# Altium integrated library Altium_WE-XHMI (rev22e).IntLib: 45 symbols
Pins are listed as number, name and electrical type; pins without a type are passive.

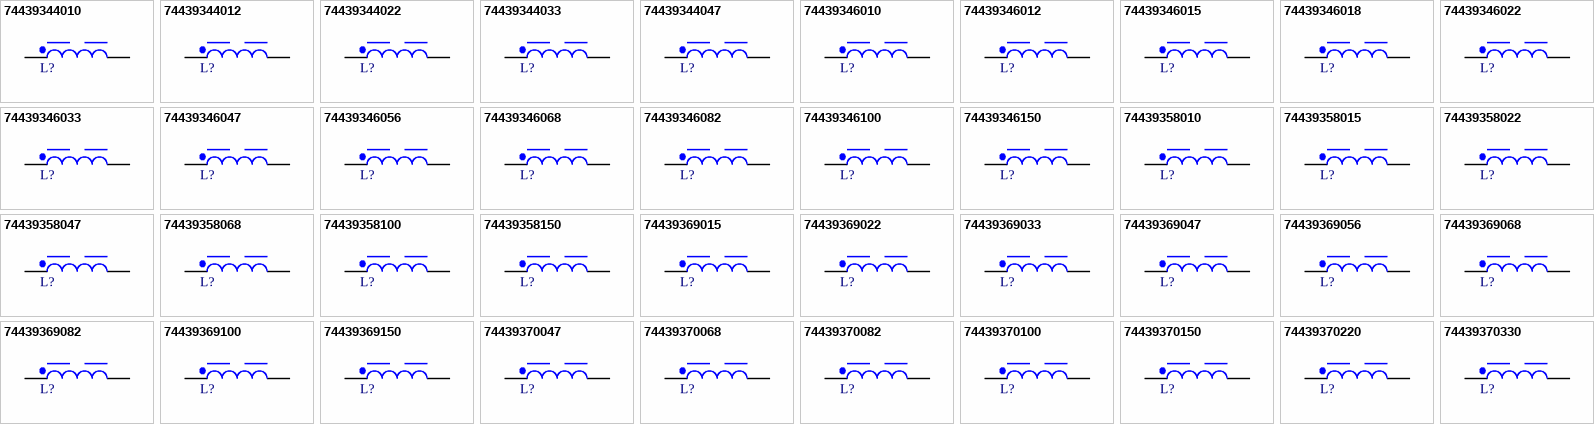
[diagram p0: symbols 74439344010 to 74439370330]

## 74439344010
designator L?, comment 1µH, 12A  (value not drawn)
WE-XHMI SMT Power Inductor, size 6030, 1µH, 12A, 5.5mΩ; Manufacturer Part Number: 74439344010; Manufacturer: Wurth Elektronik; Case/Size Code: 6030; Performance Rated Current: 15.75A; Saturation Current: 24.95A; Self Resonant Frequency: 59MHz; Category: Shielded Power Inductors; Match Code: WE-XHMI; ComponentLink1Description: Website Link; ComponentLink1URL: https://www.we-online.com/redexpert/article/74439344010?ad; ComponentLink2Description: Datasheet Link; ComponentLink2URL: https://www.we-online.com/redexpert/spec/74439344010?ad; Mount: Surface Mount; Operating Temperature Max: 125°C; Operating Temperature Min: -40°C; Packaging: Tape and Reel; Length: 6.65mm; Width: 6.45mm; Height: 3mm; DC Resistance: 5.5mΩ; Inductance: 1µH; Rated Current: 12A
footprint WE-XHMI_6030_L6.65W6.45H3
simulation model 6030_74439344010_1u
pins: 1, 2

## 74439344012
designator L?, comment 1.2µH, 10.3A  (value not drawn)
WE-XHMI SMT Power Inductor, size 6030, 1.2µH, 10.3A, 6.4mΩ; Manufacturer Part Number: 74439344012; Manufacturer: Wurth Elektronik; Case/Size Code: 6030; Performance Rated Current: 14.45A; Saturation Current: 21.6A; Self Resonant Frequency: 53MHz; Category: Shielded Power Inductors; Match Code: WE-XHMI; ComponentLink1Description: Website Link; ComponentLink1URL: https://www.we-online.com/redexpert/article/74439344012?ad; ComponentLink2Description: Datasheet Link; ComponentLink2URL: https://www.we-online.com/redexpert/spec/74439344012?ad; Mount: Surface Mount; Operating Temperature Max: 125°C; Operating Temperature Min: -40°C; Packaging: Tape and Reel; Length: 6.65mm; Width: 6.45mm; Height: 3mm; DC Resistance: 6.4mΩ; Inductance: 1.2µH; Rated Current: 10.3A
footprint WE-XHMI_6030_L6.65W6.45H3
simulation model 6030_74439344012_1.2u
pins: 1, 2

## 74439344022
designator L?, comment 2.2µH, 8A  (value not drawn)
WE-XHMI SMT Power Inductor, size 6030, 2.2µH, 8A, 10.5mΩ; Manufacturer Part Number: 74439344022; Manufacturer: Wurth Elektronik; Case/Size Code: 6030; Performance Rated Current: 10.85A; Saturation Current: 16.25A; Self Resonant Frequency: 37MHz; Category: Shielded Power Inductors; Match Code: WE-XHMI; ComponentLink1Description: Website Link; ComponentLink1URL: https://www.we-online.com/redexpert/article/74439344022?ad; ComponentLink2Description: Datasheet Link; ComponentLink2URL: https://www.we-online.com/redexpert/spec/74439344022?ad; Mount: Surface Mount; Operating Temperature Max: 125°C; Operating Temperature Min: -40°C; Packaging: Tape and Reel; Length: 6.65mm; Width: 6.45mm; Height: 3mm; DC Resistance: 10.5mΩ; Inductance: 2.2µH; Rated Current: 8A
footprint WE-XHMI_6030_L6.65W6.45H3
simulation model 6030_74439344022_2.2u
pins: 1, 2

## 74439344033
designator L?, comment 3.3µH, 6A  (value not drawn)
WE-XHMI SMT Power Inductor, size 6030, 3.3µH, 6A, 19.2mΩ; Manufacturer Part Number: 74439344033; Manufacturer: Wurth Elektronik; Case/Size Code: 6030; Performance Rated Current: 7.65A; Saturation Current: 14.5A; Self Resonant Frequency: 31MHz; Category: Shielded Power Inductors; Match Code: WE-XHMI; ComponentLink1Description: Website Link; ComponentLink1URL: https://www.we-online.com/redexpert/article/74439344033?ad; ComponentLink2Description: Datasheet Link; ComponentLink2URL: https://www.we-online.com/redexpert/spec/74439344033?ad; Mount: Surface Mount; Operating Temperature Max: 125°C; Operating Temperature Min: -40°C; Packaging: Tape and Reel; Length: 6.65mm; Width: 6.45mm; Height: 3mm; DC Resistance: 19.2mΩ; Inductance: 3.3µH; Rated Current: 6A
footprint WE-XHMI_6030_L6.65W6.45H3
simulation model 6030_74439344033_3.3u
pins: 1, 2

## 74439344047
designator L?, comment 4.7µH, 4.7A  (value not drawn)
WE-XHMI SMT Power Inductor, size 6030, 4.7µH, 4.7A, 31mΩ; Manufacturer Part Number: 74439344047; Manufacturer: Wurth Elektronik; Case/Size Code: 6030; Performance Rated Current: 5.8A; Saturation Current: 10.5A; Self Resonant Frequency: 28MHz; Category: Shielded Power Inductors; Match Code: WE-XHMI; ComponentLink1Description: Website Link; ComponentLink1URL: https://www.we-online.com/redexpert/article/74439344047?ad; ComponentLink2Description: Datasheet Link; ComponentLink2URL: https://www.we-online.com/redexpert/spec/74439344047?ad; Mount: Surface Mount; Operating Temperature Max: 125°C; Operating Temperature Min: -40°C; Packaging: Tape and Reel; Length: 6.65mm; Width: 6.45mm; Height: 3mm; DC Resistance: 31mΩ; Inductance: 4.7µH; Rated Current: 4.7A
footprint WE-XHMI_6030_L6.65W6.45H3
simulation model 6030_74439344047_4.7u
pins: 1, 2

## 74439346010
designator L?, comment 1µH, 13.1A  (value not drawn)
WE-XHMI SMT Power Inductor, size 6060, 1µH, 13.1A, 3.39mΩ; Manufacturer Part Number: 74439346010; Manufacturer: Wurth Elektronik; Case/Size Code: 6060; Performance Rated Current: 20.95A; Saturation Current: 24A; Self Resonant Frequency: 60MHz; Category: Shielded Power Inductors; Match Code: WE-XHMI; ComponentLink1Description: Website Link; ComponentLink1URL: https://www.we-online.com/redexpert/article/74439346010?ad; ComponentLink2Description: Datasheet Link; ComponentLink2URL: https://www.we-online.com/redexpert/spec/74439346010?ad; Mount: Surface Mount; Operating Temperature Max: 125°C; Operating Temperature Min: -40°C; Packaging: Tape and Reel; Length: 6.65mm; Width: 6.45mm; Height: 5.8mm; DC Resistance: 3.39mΩ; Inductance: 1µH; Rated Current: 13.1A
footprint WE-XHMI_6060_L6.65W6.45H5.8
simulation model 6060_74439346010_1u
pins: 1, 2

## 74439346012
designator L?, comment 1.2µH, 14.2A  (value not drawn)
WE-XHMI SMT Power Inductor, size 6060, 1.2µH, 14.2A, 3.65mΩ; Manufacturer Part Number: 74439346012; Manufacturer: Wurth Elektronik; Case/Size Code: 6060; Performance Rated Current: 20.5A; Saturation Current: 20A; Self Resonant Frequency: 50MHz; Category: Shielded Power Inductors; Match Code: WE-XHMI; ComponentLink1Description: Website Link; ComponentLink1URL: https://www.we-online.com/redexpert/article/74439346012?ad; ComponentLink2Description: Datasheet Link; ComponentLink2URL: https://www.we-online.com/redexpert/spec/74439346012?ad; Mount: Surface Mount; Operating Temperature Max: 125°C; Operating Temperature Min: -40°C; Packaging: Tape and Reel; Length: 6.65mm; Width: 6.45mm; Height: 5.8mm; DC Resistance: 3.65mΩ; Inductance: 1.2µH; Rated Current: 14.2A
footprint WE-XHMI_6060_L6.65W6.45H5.8
simulation model 6060_74439346012_1.2u
pins: 1, 2

## 74439346015
designator L?, comment 1.5µH, 13.2A  (value not drawn)
WE-XHMI SMT Power Inductor, size 6060, 1.5µH, 13.2A, 3.9mΩ; Manufacturer Part Number: 74439346015; Manufacturer: Wurth Elektronik; Case/Size Code: 6060; Performance Rated Current: 19.35A; Saturation Current: 20.5A; Self Resonant Frequency: 44MHz; Category: Shielded Power Inductors; Match Code: WE-XHMI; ComponentLink1Description: Website Link; ComponentLink1URL: https://www.we-online.com/redexpert/article/74439346015?ad; ComponentLink2Description: Datasheet Link; ComponentLink2URL: https://www.we-online.com/redexpert/spec/74439346015?ad; Mount: Surface Mount; Operating Temperature Max: 125°C; Operating Temperature Min: -40°C; Packaging: Tape and Reel; Length: 6.65mm; Width: 6.45mm; Height: 5.8mm; DC Resistance: 3.9mΩ; Inductance: 1.5µH; Rated Current: 13.2A
footprint WE-XHMI_6060_L6.65W6.45H5.8
simulation model 6060_74439346015_1.5u
pins: 1, 2

## 74439346018
designator L?, comment 1.8µH, 11.5A  (value not drawn)
WE-XHMI SMT Power Inductor, size 6060, 1.8µH, 11.5A, 4.7mΩ; Manufacturer Part Number: 74439346018; Manufacturer: Wurth Elektronik; Case/Size Code: 6060; Performance Rated Current: 17.35A; Saturation Current: 18.3A; Self Resonant Frequency: 42MHz; Category: Shielded Power Inductors; Match Code: WE-XHMI; ComponentLink1Description: Website Link; ComponentLink1URL: https://www.we-online.com/redexpert/article/74439346018?ad; ComponentLink2Description: Datasheet Link; ComponentLink2URL: https://www.we-online.com/redexpert/spec/74439346018?ad; Mount: Surface Mount; Operating Temperature Max: 125°C; Operating Temperature Min: -40°C; Packaging: Tape and Reel; Length: 6.65mm; Width: 6.45mm; Height: 5.8mm; DC Resistance: 4.7mΩ; Inductance: 1.8µH; Rated Current: 11.5A
footprint WE-XHMI_6060_L6.65W6.45H5.8
simulation model 6060_74439346018_1.8u
pins: 1, 2

## 74439346022
designator L?, comment 2.2µH, 10.6A  (value not drawn)
WE-XHMI SMT Power Inductor, size 6060, 2.2µH, 10.6A, 5.58mΩ; Manufacturer Part Number: 74439346022; Manufacturer: Wurth Elektronik; Case/Size Code: 6060; Performance Rated Current: 15.75A; Saturation Current: 19.5A; Self Resonant Frequency: 37MHz; Category: Shielded Power Inductors; Match Code: WE-XHMI; ComponentLink1Description: Website Link; ComponentLink1URL: https://www.we-online.com/redexpert/article/74439346022?ad; ComponentLink2Description: Datasheet Link; ComponentLink2URL: https://www.we-online.com/redexpert/spec/74439346022?ad; Mount: Surface Mount; Operating Temperature Max: 125°C; Operating Temperature Min: -40°C; Packaging: Tape and Reel; Length: 6.65mm; Width: 6.45mm; Height: 5.8mm; DC Resistance: 5.58mΩ; Inductance: 2.2µH; Rated Current: 10.6A
footprint WE-XHMI_6060_L6.65W6.45H5.8
simulation model 6060_74439346022_2.2u
pins: 1, 2

## 74439346033
designator L?, comment 3.3µH, 8A  (value not drawn)
WE-XHMI SMT Power Inductor, size 6060, 3.3µH, 8A, 10.83mΩ; Manufacturer Part Number: 74439346033; Manufacturer: Wurth Elektronik; Case/Size Code: 6060; Performance Rated Current: 10.7A; Saturation Current: 15A; Self Resonant Frequency: 31MHz; Category: Shielded Power Inductors; Match Code: WE-XHMI; ComponentLink1Description: Website Link; ComponentLink1URL: https://www.we-online.com/redexpert/article/74439346033?ad; ComponentLink2Description: Datasheet Link; ComponentLink2URL: https://www.we-online.com/redexpert/spec/74439346033?ad; Mount: Surface Mount; Operating Temperature Max: 125°C; Operating Temperature Min: -40°C; Packaging: Tape and Reel; Length: 6.65mm; Width: 6.45mm; Height: 5.8mm; DC Resistance: 10.83mΩ; Inductance: 3.3µH; Rated Current: 8A
footprint WE-XHMI_6060_L6.65W6.45H5.8
simulation model 6060_74439346033_3.3u
pins: 1, 2

## 74439346047
designator L?, comment 4.7µH, 7.4A  (value not drawn)
WE-XHMI SMT Power Inductor, size 6060, 4.7µH, 7.4A, 13mΩ; Manufacturer Part Number: 74439346047; Manufacturer: Wurth Elektronik; Case/Size Code: 6060; Performance Rated Current: 9.6A; Saturation Current: 13A; Self Resonant Frequency: 28MHz; Category: Shielded Power Inductors; Match Code: WE-XHMI; ComponentLink1Description: Website Link; ComponentLink1URL: https://www.we-online.com/redexpert/article/74439346047?ad; ComponentLink2Description: Datasheet Link; ComponentLink2URL: https://www.we-online.com/redexpert/spec/74439346047?ad; Mount: Surface Mount; Operating Temperature Max: 125°C; Operating Temperature Min: -40°C; Packaging: Tape and Reel; Length: 6.65mm; Width: 6.45mm; Height: 5.8mm; DC Resistance: 13mΩ; Inductance: 4.7µH; Rated Current: 7.4A
footprint WE-XHMI_6060_L6.65W6.45H5.8
simulation model 6060_74439346047_4.7u
pins: 1, 2

## 74439346056
designator L?, comment 5.6µH, 6.9A  (value not drawn)
WE-XHMI SMT Power Inductor, size 6060, 5.6µH, 6.9A, 15mΩ; Manufacturer Part Number: 74439346056; Manufacturer: Wurth Elektronik; Case/Size Code: 6060; Performance Rated Current: 8.9A; Saturation Current: 12.1A; Self Resonant Frequency: 25MHz; Category: Shielded Power Inductors; Match Code: WE-XHMI; ComponentLink1Description: Website Link; ComponentLink1URL: https://www.we-online.com/redexpert/article/74439346056?ad; ComponentLink2Description: Datasheet Link; ComponentLink2URL: https://www.we-online.com/redexpert/spec/74439346056?ad; Mount: Surface Mount; Operating Temperature Max: 125°C; Operating Temperature Min: -40°C; Packaging: Tape and Reel; Length: 6.65mm; Width: 6.45mm; Height: 5.8mm; DC Resistance: 15mΩ; Inductance: 5.6µH; Rated Current: 6.9A
footprint WE-XHMI_6060_L6.65W6.45H5.8
simulation model 6060_74439346056_5.6u
pins: 1, 2

## 74439346068
designator L?, comment 6.8µH, 6.5A  (value not drawn)
WE-XHMI SMT Power Inductor, size 6060, 6.8µH, 6.5A, 17.6mΩ; Manufacturer Part Number: 74439346068; Manufacturer: Wurth Elektronik; Case/Size Code: 6060; Performance Rated Current: 8.1A; Saturation Current: 11.3A; Self Resonant Frequency: 22MHz; Category: Shielded Power Inductors; Match Code: WE-XHMI; ComponentLink1Description: Website Link; ComponentLink1URL: https://www.we-online.com/redexpert/article/74439346068?ad; ComponentLink2Description: Datasheet Link; ComponentLink2URL: https://www.we-online.com/redexpert/spec/74439346068?ad; Mount: Surface Mount; Operating Temperature Max: 125°C; Operating Temperature Min: -40°C; Packaging: Tape and Reel; Length: 6.65mm; Width: 6.45mm; Height: 5.8mm; DC Resistance: 17.6mΩ; Inductance: 6.8µH; Rated Current: 6.5A
footprint WE-XHMI_6060_L6.65W6.45H5.8
simulation model 6060_74439346068_6.8u
pins: 1, 2

## 74439346082
designator L?, comment 8.2µH, 5.3A  (value not drawn)
WE-XHMI SMT Power Inductor, size 6060, 8.2µH, 5.3A, 23mΩ; Manufacturer Part Number: 74439346082; Manufacturer: Wurth Elektronik; Case/Size Code: 6060; Performance Rated Current: 6.95A; Saturation Current: 9.3A; Self Resonant Frequency: 19MHz; Category: Shielded Power Inductors; Match Code: WE-XHMI; ComponentLink1Description: Website Link; ComponentLink1URL: https://www.we-online.com/redexpert/article/74439346082?ad; ComponentLink2Description: Datasheet Link; ComponentLink2URL: https://www.we-online.com/redexpert/spec/74439346082?ad; Mount: Surface Mount; Operating Temperature Max: 125°C; Operating Temperature Min: -40°C; Packaging: Tape and Reel; Length: 6.65mm; Width: 6.45mm; Height: 5.8mm; DC Resistance: 23mΩ; Inductance: 8.2µH; Rated Current: 5.3A
footprint WE-XHMI_6060_L6.65W6.45H5.8
simulation model 6060_74439346082_8.2u
pins: 1, 2

## 74439346100
designator L?, comment 10µH, 5A  (value not drawn)
WE-XHMI SMT Power Inductor, size 6060, 10µH, 5A, 26.5mΩ; Manufacturer Part Number: 74439346100; Manufacturer: Wurth Elektronik; Case/Size Code: 6060; Performance Rated Current: 6.4A; Saturation Current: 9.7A; Self Resonant Frequency: 18MHz; Category: Shielded Power Inductors; Match Code: WE-XHMI; ComponentLink1Description: Website Link; ComponentLink1URL: https://www.we-online.com/redexpert/article/74439346100?ad; ComponentLink2Description: Datasheet Link; ComponentLink2URL: https://www.we-online.com/redexpert/spec/74439346100?ad; Mount: Surface Mount; Operating Temperature Max: 125°C; Operating Temperature Min: -40°C; Packaging: Tape and Reel; Length: 6.65mm; Width: 6.45mm; Height: 5.8mm; DC Resistance: 26.5mΩ; Inductance: 10µH; Rated Current: 5A
footprint WE-XHMI_6060_L6.65W6.45H5.8
simulation model 6060_74439346100_10u
pins: 1, 2

## 74439346150
designator L?, comment 15µH, 4.2A  (value not drawn)
WE-XHMI SMT Power Inductor, size 6060, 15µH, 4.2A, 42mΩ; Manufacturer Part Number: 74439346150; Manufacturer: Wurth Elektronik; Case/Size Code: 6060; Performance Rated Current: 4.9A; Saturation Current: 7.4A; Self Resonant Frequency: 14MHz; Category: Shielded Power Inductors; Match Code: WE-XHMI; ComponentLink1Description: Website Link; ComponentLink1URL: https://www.we-online.com/redexpert/article/74439346150?ad; ComponentLink2Description: Datasheet Link; ComponentLink2URL: https://www.we-online.com/redexpert/spec/74439346150?ad; Mount: Surface Mount; Operating Temperature Max: 125°C; Operating Temperature Min: -40°C; Packaging: Tape and Reel; Length: 6.65mm; Width: 6.45mm; Height: 5.8mm; DC Resistance: 42mΩ; Inductance: 15µH; Rated Current: 4.2A
footprint WE-XHMI_6060_L6.65W6.45H5.8
simulation model 6060_74439346150_15u
pins: 1, 2

## 74439358010
designator L?, comment 1µH, 17A  (value not drawn)
WE-XHMI SMT Power Inductor, size 8080, 1µH, 17A, 2.1mΩ; Manufacturer Part Number: 74439358010; Manufacturer: Wurth Elektronik; Case/Size Code: 8080; Performance Rated Current: 30.25A; Saturation Current: 38.15A; Self Resonant Frequency: 53MHz; Category: Shielded Power Inductors; Match Code: WE-XHMI; ComponentLink1Description: Website Link; ComponentLink1URL: https://www.we-online.com/redexpert/article/74439358010?ad; ComponentLink2Description: Datasheet Link; ComponentLink2URL: https://www.we-online.com/redexpert/spec/74439358010?ad; Mount: Surface Mount; Operating Temperature Max: 125°C; Operating Temperature Min: -40°C; Packaging: Tape and Reel; Length: 8.8mm; Width: 8.3mm; Height: 7.8mm; DC Resistance: 2.1mΩ; Inductance: 1µH; Rated Current: 17A
footprint WE-XHMI_8080_L8.8W8.3H7.8
simulation model 8080_74439358010_1u
pins: 1, 2

## 74439358015
designator L?, comment 1.5µH, 16A  (value not drawn)
WE-XHMI SMT Power Inductor, size 8080, 1.5µH, 16A, 2.91mΩ; Manufacturer Part Number: 74439358015; Manufacturer: Wurth Elektronik; Case/Size Code: 8080; Performance Rated Current: 25.1A; Saturation Current: 32A; Self Resonant Frequency: 37MHz; Category: Shielded Power Inductors; Match Code: WE-XHMI; ComponentLink1Description: Website Link; ComponentLink1URL: https://www.we-online.com/redexpert/article/74439358015?ad; ComponentLink2Description: Datasheet Link; ComponentLink2URL: https://www.we-online.com/redexpert/spec/74439358015?ad; Mount: Surface Mount; Operating Temperature Max: 125°C; Operating Temperature Min: -40°C; Packaging: Tape and Reel; Length: 8.8mm; Width: 8.3mm; Height: 7.8mm; DC Resistance: 2.91mΩ; Inductance: 1.5µH; Rated Current: 16A
footprint WE-XHMI_8080_L8.8W8.3H7.8
simulation model 8080_74439358015_1.5u
pins: 1, 2

## 74439358022
designator L?, comment 2.2µH, 13A  (value not drawn)
WE-XHMI SMT Power Inductor, size 8080, 2.2µH, 13A, 3.7mΩ; Manufacturer Part Number: 74439358022; Manufacturer: Wurth Elektronik; Case/Size Code: 8080; Performance Rated Current: 21.85A; Saturation Current: 26.45A; Self Resonant Frequency: 33MHz; Category: Shielded Power Inductors; Match Code: WE-XHMI; ComponentLink1Description: Website Link; ComponentLink1URL: https://www.we-online.com/redexpert/article/74439358022?ad; ComponentLink2Description: Datasheet Link; ComponentLink2URL: https://www.we-online.com/redexpert/spec/74439358022?ad; Mount: Surface Mount; Operating Temperature Max: 125°C; Operating Temperature Min: -40°C; Packaging: Tape and Reel; Length: 8.8mm; Width: 8.3mm; Height: 7.8mm; DC Resistance: 3.7mΩ; Inductance: 2.2µH; Rated Current: 13A
footprint WE-XHMI_8080_L8.8W8.3H7.8
simulation model 8080_74439358022_2.2u
pins: 1, 2

## 74439358047
designator L?, comment 4.7µH, 9.5A  (value not drawn)
WE-XHMI SMT Power Inductor, size 8080, 4.7µH, 9.5A, 8.65mΩ; Manufacturer Part Number: 74439358047; Manufacturer: Wurth Elektronik; Case/Size Code: 8080; Performance Rated Current: 13.35A; Saturation Current: 16.65A; Self Resonant Frequency: 22MHz; Category: Shielded Power Inductors; Match Code: WE-XHMI; ComponentLink1Description: Website Link; ComponentLink1URL: https://www.we-online.com/redexpert/article/74439358047?ad; ComponentLink2Description: Datasheet Link; ComponentLink2URL: https://www.we-online.com/redexpert/spec/74439358047?ad; Mount: Surface Mount; Operating Temperature Max: 125°C; Operating Temperature Min: -40°C; Packaging: Tape and Reel; Length: 8.8mm; Width: 8.3mm; Height: 7.8mm; DC Resistance: 8.65mΩ; Inductance: 4.7µH; Rated Current: 9.5A
footprint WE-XHMI_8080_L8.8W8.3H7.8
simulation model 8080_74439358047_4.7u
pins: 1, 2

## 74439358068
designator L?, comment 6.8µH, 7.2A  (value not drawn)
WE-XHMI SMT Power Inductor, size 8080, 6.8µH, 7.2A, 13mΩ; Manufacturer Part Number: 74439358068; Manufacturer: Wurth Elektronik; Case/Size Code: 8080; Performance Rated Current: 10.55A; Saturation Current: 17.6A; Self Resonant Frequency: 22MHz; Category: Shielded Power Inductors; Match Code: WE-XHMI; ComponentLink1Description: Website Link; ComponentLink1URL: https://www.we-online.com/redexpert/article/74439358068?ad; ComponentLink2Description: Datasheet Link; ComponentLink2URL: https://www.we-online.com/redexpert/spec/74439358068?ad; Mount: Surface Mount; Operating Temperature Max: 125°C; Operating Temperature Min: -40°C; Packaging: Tape and Reel; Length: 8.8mm; Width: 8.3mm; Height: 7.8mm; DC Resistance: 13mΩ; Inductance: 6.8µH; Rated Current: 7.2A
footprint WE-XHMI_8080_L8.8W8.3H7.8
simulation model 8080_74439358068_6.8u
pins: 1, 2

## 74439358100
designator L?, comment 10µH, 5.8A  (value not drawn)
WE-XHMI SMT Power Inductor, size 8080, 10µH, 5.8A, 19mΩ; Manufacturer Part Number: 74439358100; Manufacturer: Wurth Elektronik; Case/Size Code: 8080; Performance Rated Current: 8.5A; Saturation Current: 13.5A; Self Resonant Frequency: 17MHz; Category: Shielded Power Inductors; Match Code: WE-XHMI; ComponentLink1Description: Website Link; ComponentLink1URL: https://www.we-online.com/redexpert/article/74439358100?ad; ComponentLink2Description: Datasheet Link; ComponentLink2URL: https://www.we-online.com/redexpert/spec/74439358100?ad; Mount: Surface Mount; Operating Temperature Max: 125°C; Operating Temperature Min: -40°C; Packaging: Tape and Reel; Length: 8.8mm; Width: 8.3mm; Height: 7.8mm; DC Resistance: 19mΩ; Inductance: 10µH; Rated Current: 5.8A
footprint WE-XHMI_8080_L8.8W8.3H7.8
simulation model 8080_74439358100_10u
pins: 1, 2

## 74439358150
designator L?, comment 15µH, 5.6A  (value not drawn)
WE-XHMI SMT Power Inductor, size 8080, 15µH, 5.6A, 25mΩ; Manufacturer Part Number: 74439358150; Manufacturer: Wurth Elektronik; Case/Size Code: 8080; Performance Rated Current: 7.25A; Saturation Current: 10.7A; Self Resonant Frequency: 12MHz; Category: Shielded Power Inductors; Match Code: WE-XHMI; ComponentLink1Description: Website Link; ComponentLink1URL: https://www.we-online.com/redexpert/article/74439358150?ad; ComponentLink2Description: Datasheet Link; ComponentLink2URL: https://www.we-online.com/redexpert/spec/74439358150?ad; Mount: Surface Mount; Operating Temperature Max: 125°C; Operating Temperature Min: -40°C; Packaging: Tape and Reel; Length: 8.8mm; Width: 8.3mm; Height: 7.8mm; DC Resistance: 25mΩ; Inductance: 15µH; Rated Current: 5.6A
footprint WE-XHMI_8080_L8.8W8.3H7.8
simulation model 8080_74439358150_15u
pins: 1, 2

## 74439369015
designator L?, comment 1.5µH, 23.2A  (value not drawn)
WE-XHMI SMT Power Inductor, size 1090, 1.5µH, 23.2A, 1.46mΩ; Manufacturer Part Number: 74439369015; Manufacturer: Wurth Elektronik; Case/Size Code: 1090; Performance Rated Current: 40.6A; Saturation Current: 38.55A; Self Resonant Frequency: 31MHz; Category: Shielded Power Inductors; Match Code: WE-XHMI; ComponentLink1Description: Website Link; ComponentLink1URL: https://www.we-online.com/redexpert/article/74439369015?ad; ComponentLink2Description: Datasheet Link; ComponentLink2URL: https://www.we-online.com/redexpert/spec/74439369015?ad; Mount: Surface Mount; Operating Temperature Max: 125°C; Operating Temperature Min: -40°C; Packaging: Tape and Reel; Length: 11.6mm; Width: 10.5mm; Height: 8.8mm; DC Resistance: 1.46mΩ; Inductance: 1.5µH; Rated Current: 23.2A
footprint WE-XHMI_1090_L11.6W10.5H8.8
simulation model 1090_74439369015_1.5u
pins: 1, 2

## 74439369022
designator L?, comment 2.2µH, 16A  (value not drawn)
WE-XHMI SMT Power Inductor, size 1090, 2.2µH, 16A, 2.2mΩ; Manufacturer Part Number: 74439369022; Manufacturer: Wurth Elektronik; Case/Size Code: 1090; Performance Rated Current: 32.05A; Saturation Current: 32.1A; Self Resonant Frequency: 28MHz; Category: Shielded Power Inductors; Match Code: WE-XHMI; ComponentLink1Description: Website Link; ComponentLink1URL: https://www.we-online.com/redexpert/article/74439369022?ad; ComponentLink2Description: Datasheet Link; ComponentLink2URL: https://www.we-online.com/redexpert/spec/74439369022?ad; Mount: Surface Mount; Operating Temperature Max: 125°C; Operating Temperature Min: -40°C; Packaging: Tape and Reel; Length: 11.6mm; Width: 10.5mm; Height: 8.8mm; DC Resistance: 2.2mΩ; Inductance: 2.2µH; Rated Current: 16A
footprint WE-XHMI_1090_L11.6W10.5H8.8
simulation model 1090_74439369022_2.2u
pins: 1, 2

## 74439369033
designator L?, comment 3.3µH, 15A  (value not drawn)
WE-XHMI SMT Power Inductor, size 1090, 3.3µH, 15A, 3.4mΩ; Manufacturer Part Number: 74439369033; Manufacturer: Wurth Elektronik; Case/Size Code: 1090; Performance Rated Current: 24.95A; Saturation Current: 34A; Self Resonant Frequency: 23MHz; Category: Shielded Power Inductors; Match Code: WE-XHMI; ComponentLink1Description: Website Link; ComponentLink1URL: https://www.we-online.com/redexpert/article/74439369033?ad; ComponentLink2Description: Datasheet Link; ComponentLink2URL: https://www.we-online.com/redexpert/spec/74439369033?ad; Mount: Surface Mount; Operating Temperature Max: 125°C; Operating Temperature Min: -40°C; Packaging: Tape and Reel; Length: 11.6mm; Width: 10.5mm; Height: 8.8mm; DC Resistance: 3.4mΩ; Inductance: 3.3µH; Rated Current: 15A
footprint WE-XHMI_1090_L11.6W10.5H8.8
simulation model 1090_74439369033_3.3u
pins: 1, 2

## 74439369047
designator L?, comment 4.7µH, 13.5A  (value not drawn)
WE-XHMI SMT Power Inductor, size 1090, 4.7µH, 13.5A, 5mΩ; Manufacturer Part Number: 74439369047; Manufacturer: Wurth Elektronik; Case/Size Code: 1090; Performance Rated Current: 20A; Saturation Current: 28.05A; Self Resonant Frequency: 21MHz; Category: Shielded Power Inductors; Match Code: WE-XHMI; ComponentLink1Description: Website Link; ComponentLink1URL: https://www.we-online.com/redexpert/article/74439369047?ad; ComponentLink2Description: Datasheet Link; ComponentLink2URL: https://www.we-online.com/redexpert/spec/74439369047?ad; Mount: Surface Mount; Operating Temperature Max: 125°C; Operating Temperature Min: -40°C; Packaging: Tape and Reel; Length: 11.6mm; Width: 10.5mm; Height: 8.8mm; DC Resistance: 5mΩ; Inductance: 4.7µH; Rated Current: 13.5A
footprint WE-XHMI_1090_L11.6W10.5H8.8
simulation model 1090_74439369047_4.7u
pins: 1, 2

## 74439369056
designator L?, comment 5.6µH, 11.5A  (value not drawn)
WE-XHMI SMT Power Inductor, size 1090, 5.6µH, 11.5A, 5.9mΩ; Manufacturer Part Number: 74439369056; Manufacturer: Wurth Elektronik; Case/Size Code: 1090; Performance Rated Current: 18.15A; Saturation Current: 24.45A; Self Resonant Frequency: 18MHz; Category: Shielded Power Inductors; Match Code: WE-XHMI; ComponentLink1Description: Website Link; ComponentLink1URL: https://www.we-online.com/redexpert/article/74439369056?ad; ComponentLink2Description: Datasheet Link; ComponentLink2URL: https://www.we-online.com/redexpert/spec/74439369056?ad; Mount: Surface Mount; Operating Temperature Max: 125°C; Operating Temperature Min: -40°C; Packaging: Tape and Reel; Length: 11.6mm; Width: 10.5mm; Height: 8.8mm; DC Resistance: 5.9mΩ; Inductance: 5.6µH; Rated Current: 11.5A
footprint WE-XHMI_1090_L11.6W10.5H8.8
simulation model 1090_74439369056_5.6u
pins: 1, 2

## 74439369068
designator L?, comment 6.8µH, 10.5A  (value not drawn)
WE-XHMI SMT Power Inductor, size 1090, 6.8µH, 10.5A, 7.16mΩ; Manufacturer Part Number: 74439369068; Manufacturer: Wurth Elektronik; Case/Size Code: 1090; Performance Rated Current: 16.3A; Saturation Current: 23.25A; Self Resonant Frequency: 16MHz; Category: Shielded Power Inductors; Match Code: WE-XHMI; ComponentLink1Description: Website Link; ComponentLink1URL: https://www.we-online.com/redexpert/article/74439369068?ad; ComponentLink2Description: Datasheet Link; ComponentLink2URL: https://www.we-online.com/redexpert/spec/74439369068?ad; Mount: Surface Mount; Operating Temperature Max: 125°C; Operating Temperature Min: -40°C; Packaging: Tape and Reel; Length: 11.6mm; Width: 10.5mm; Height: 8.8mm; DC Resistance: 7.16mΩ; Inductance: 6.8µH; Rated Current: 10.5A
footprint WE-XHMI_1090_L11.6W10.5H8.8
simulation model 1090_74439369068_6.8u
pins: 1, 2

## 74439369082
designator L?, comment 8.2µH, 9.8A  (value not drawn)
WE-XHMI SMT Power Inductor, size 1090, 8.2µH, 9.8A, 10mΩ; Manufacturer Part Number: 74439369082; Manufacturer: Wurth Elektronik; Case/Size Code: 1090; Performance Rated Current: 13.4A; Saturation Current: 20.45A; Self Resonant Frequency: 16MHz; Category: Shielded Power Inductors; Match Code: WE-XHMI; ComponentLink1Description: Website Link; ComponentLink1URL: https://www.we-online.com/redexpert/article/74439369082?ad; ComponentLink2Description: Datasheet Link; ComponentLink2URL: https://www.we-online.com/redexpert/spec/74439369082?ad; Mount: Surface Mount; Operating Temperature Max: 125°C; Operating Temperature Min: -40°C; Packaging: Tape and Reel; Length: 11.6mm; Width: 10.5mm; Height: 8.8mm; DC Resistance: 10mΩ; Inductance: 8.2µH; Rated Current: 9.8A
footprint WE-XHMI_1090_L11.6W10.5H8.8
simulation model 1090_74439369082_8.2u
pins: 1, 2

## 74439369100
designator L?, comment 10µH, 9.4A  (value not drawn)
WE-XHMI SMT Power Inductor, size 1090, 10µH, 9.4A, 11mΩ; Manufacturer Part Number: 74439369100; Manufacturer: Wurth Elektronik; Case/Size Code: 1090; Performance Rated Current: 12.7A; Saturation Current: 20.3A; Self Resonant Frequency: 14MHz; Category: Shielded Power Inductors; Match Code: WE-XHMI; ComponentLink1Description: Website Link; ComponentLink1URL: https://www.we-online.com/redexpert/article/74439369100?ad; ComponentLink2Description: Datasheet Link; ComponentLink2URL: https://www.we-online.com/redexpert/spec/74439369100?ad; Mount: Surface Mount; Operating Temperature Max: 125°C; Operating Temperature Min: -40°C; Packaging: Tape and Reel; Length: 11.6mm; Width: 10.5mm; Height: 8.8mm; DC Resistance: 11mΩ; Inductance: 10µH; Rated Current: 9.4A
footprint WE-XHMI_1090_L11.6W10.5H8.8
simulation model 1090_74439369100_10u
pins: 1, 2

## 74439369150
designator L?, comment 15µH, 8.3A  (value not drawn)
WE-XHMI SMT Power Inductor, size 1090, 15µH, 8.3A, 14.8mΩ; Manufacturer Part Number: 74439369150; Manufacturer: Wurth Elektronik; Case/Size Code: 1090; Performance Rated Current: 10.75A; Saturation Current: 16.95A; Self Resonant Frequency: 11MHz; Category: Shielded Power Inductors; Match Code: WE-XHMI; ComponentLink1Description: Website Link; ComponentLink1URL: https://www.we-online.com/redexpert/article/74439369150?ad; ComponentLink2Description: Datasheet Link; ComponentLink2URL: https://www.we-online.com/redexpert/spec/74439369150?ad; Mount: Surface Mount; Operating Temperature Max: 125°C; Operating Temperature Min: -40°C; Packaging: Tape and Reel; Length: 11.6mm; Width: 10.5mm; Height: 8.8mm; DC Resistance: 14.8mΩ; Inductance: 15µH; Rated Current: 8.3A
footprint WE-XHMI_1090_L11.6W10.5H8.8
simulation model 1090_74439369150_15u
pins: 1, 2

## 74439370047
designator L?, comment 4.7µH, 17A  (value not drawn)
WE-XHMI SMT Power Inductor, size 1510, 4.7µH, 17A, 3.1mΩ; Manufacturer Part Number: 74439370047; Manufacturer: Wurth Elektronik; Case/Size Code: 1510; Performance Rated Current: 29.7A; Saturation Current: 47.4A; Self Resonant Frequency: 16MHz; Category: Shielded Power Inductors; Match Code: WE-XHMI; ComponentLink1Description: Website Link; ComponentLink1URL: https://www.we-online.com/redexpert/article/74439370047?ad; ComponentLink2Description: Datasheet Link; ComponentLink2URL: https://www.we-online.com/redexpert/spec/74439370047?ad; Mount: Surface Mount; Operating Temperature Max: 125°C; Operating Temperature Min: -40°C; Packaging: Tape and Reel; Length: 16.4mm; Width: 15.4mm; Height: 10mm; DC Resistance: 3.1mΩ; Inductance: 4.7µH; Rated Current: 17A
footprint WE-XHMI_1510_L16.4W15.4H10
simulation model 1510_74439370047_4.7u
pins: 1, 2

## 74439370068
designator L?, comment 6.8µH, 15A  (value not drawn)
WE-XHMI SMT Power Inductor, size 1510, 6.8µH, 15A, 4.1mΩ; Manufacturer Part Number: 74439370068; Manufacturer: Wurth Elektronik; Case/Size Code: 1510; Performance Rated Current: 25.3A; Saturation Current: 40.05A; Self Resonant Frequency: 14MHz; Category: Shielded Power Inductors; Match Code: WE-XHMI; ComponentLink1Description: Website Link; ComponentLink1URL: https://www.we-online.com/redexpert/article/74439370068?ad; ComponentLink2Description: Datasheet Link; ComponentLink2URL: https://www.we-online.com/redexpert/spec/74439370068?ad; Mount: Surface Mount; Operating Temperature Max: 125°C; Operating Temperature Min: -40°C; Packaging: Tape and Reel; Length: 16.4mm; Width: 15.4mm; Height: 10mm; DC Resistance: 4.1mΩ; Inductance: 6.8µH; Rated Current: 15A
footprint WE-XHMI_1510_L16.4W15.4H10
simulation model 1510_74439370068_6.8u
pins: 1, 2

## 74439370082
designator L?, comment 8.2µH, 13A  (value not drawn)
WE-XHMI SMT Power Inductor, size 1510, 8.2µH, 13A, 5.5mΩ; Manufacturer Part Number: 74439370082; Manufacturer: Wurth Elektronik; Case/Size Code: 1510; Performance Rated Current: 21.35A; Saturation Current: 36.4A; Self Resonant Frequency: 11MHz; Category: Shielded Power Inductors; Match Code: WE-XHMI; ComponentLink1Description: Website Link; ComponentLink1URL: https://www.we-online.com/redexpert/article/74439370082?ad; ComponentLink2Description: Datasheet Link; ComponentLink2URL: https://www.we-online.com/redexpert/spec/74439370082?ad; Mount: Surface Mount; Operating Temperature Max: 125°C; Operating Temperature Min: -40°C; Packaging: Tape and Reel; Length: 16.4mm; Width: 15.4mm; Height: 10mm; DC Resistance: 5.5mΩ; Inductance: 8.2µH; Rated Current: 13A
footprint WE-XHMI_1510_L16.4W15.4H10
simulation model 1510_74439370082_8.2u
pins: 1, 2

## 74439370100
designator L?, comment 10µH, 11.5A  (value not drawn)
WE-XHMI SMT Power Inductor, size 1510, 10µH, 11.5A, 6.4mΩ; Manufacturer Part Number: 74439370100; Manufacturer: Wurth Elektronik; Case/Size Code: 1510; Performance Rated Current: 19.6A; Saturation Current: 31.2A; Self Resonant Frequency: 9MHz; Category: Shielded Power Inductors; Match Code: WE-XHMI; ComponentLink1Description: Website Link; ComponentLink1URL: https://www.we-online.com/redexpert/article/74439370100?ad; ComponentLink2Description: Datasheet Link; ComponentLink2URL: https://www.we-online.com/redexpert/spec/74439370100?ad; Mount: Surface Mount; Operating Temperature Max: 125°C; Operating Temperature Min: -40°C; Packaging: Tape and Reel; Length: 16.4mm; Width: 15.4mm; Height: 10mm; DC Resistance: 6.4mΩ; Inductance: 10µH; Rated Current: 11.5A
footprint WE-XHMI_1510_L16.4W15.4H10
simulation model 1510_74439370100_10u
pins: 1, 2

## 74439370150
designator L?, comment 15µH, 10A  (value not drawn)
WE-XHMI SMT Power Inductor, size 1510, 15µH, 10A, 10.5mΩ; Manufacturer Part Number: 74439370150; Manufacturer: Wurth Elektronik; Case/Size Code: 1510; Performance Rated Current: 14.7A; Saturation Current: 26.1A; Self Resonant Frequency: 8MHz; Category: Shielded Power Inductors; Match Code: WE-XHMI; ComponentLink1Description: Website Link; ComponentLink1URL: https://www.we-online.com/redexpert/article/74439370150?ad; ComponentLink2Description: Datasheet Link; ComponentLink2URL: https://www.we-online.com/redexpert/spec/74439370150?ad; Mount: Surface Mount; Operating Temperature Max: 125°C; Operating Temperature Min: -40°C; Packaging: Tape and Reel; Length: 16.4mm; Width: 15.4mm; Height: 10mm; DC Resistance: 10.5mΩ; Inductance: 15µH; Rated Current: 10A
footprint WE-XHMI_1510_L16.4W15.4H10
simulation model 1510_74439370150_15u
pins: 1, 2

## 74439370220
designator L?, comment 22µH, 8A  (value not drawn)
WE-XHMI SMT Power Inductor, size 1510, 22µH, 8A, 12.5mΩ; Manufacturer Part Number: 74439370220; Manufacturer: Wurth Elektronik; Case/Size Code: 1510; Performance Rated Current: 13.35A; Saturation Current: 22.35A; Self Resonant Frequency: 7MHz; Category: Shielded Power Inductors; Match Code: WE-XHMI; ComponentLink1Description: Website Link; ComponentLink1URL: https://www.we-online.com/redexpert/article/74439370220?ad; ComponentLink2Description: Datasheet Link; ComponentLink2URL: https://www.we-online.com/redexpert/spec/74439370220?ad; Mount: Surface Mount; Operating Temperature Max: 125°C; Operating Temperature Min: -40°C; Packaging: Tape and Reel; Length: 16.4mm; Width: 15.4mm; Height: 10mm; DC Resistance: 12.5mΩ; Inductance: 22µH; Rated Current: 8A
footprint WE-XHMI_1510_L16.4W15.4H10
simulation model 1510_74439370220_22u
pins: 1, 2

## 74439370330
designator L?, comment 33µH, 8.5A  (value not drawn)
WE-XHMI SMT Power Inductor, size 1510, 33µH, 8.5A, 18mΩ; Manufacturer Part Number: 74439370330; Manufacturer: Wurth Elektronik; Case/Size Code: 1510; Performance Rated Current: 10.8A; Saturation Current: 18.15A; Self Resonant Frequency: 5MHz; Category: Shielded Power Inductors; Match Code: WE-XHMI; ComponentLink1Description: Website Link; ComponentLink1URL: https://www.we-online.com/redexpert/article/74439370330?ad; ComponentLink2Description: Datasheet Link; ComponentLink2URL: https://www.we-online.com/redexpert/spec/74439370330?ad; Mount: Surface Mount; Operating Temperature Max: 125°C; Operating Temperature Min: -40°C; Packaging: Tape and Reel; Length: 16.4mm; Width: 15.4mm; Height: 10mm; DC Resistance: 18mΩ; Inductance: 33µH; Rated Current: 8.5A
footprint WE-XHMI_1510_L16.4W15.4H10
simulation model 1510_74439370330_33u
pins: 1, 2

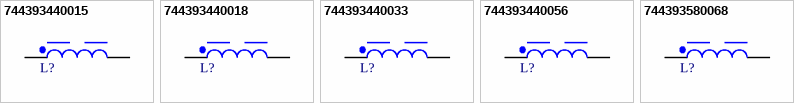
[diagram p1: symbols 744393440015 to 744393580068]

## 744393440015
designator L?, comment 0.15µH, 18.9A  (value not drawn)
WE-XHMI SMT Power Inductor, size 6030, 0.15µH, 18.9A, 1.24mΩ; Manufacturer Part Number: 744393440015; Manufacturer: Wurth Elektronik; Case/Size Code: 6030; Performance Rated Current: 37A; Saturation Current: 56A; Self Resonant Frequency: 191MHz; Category: Shielded Power Inductors; Match Code: WE-XHMI; ComponentLink1Description: Website Link; ComponentLink1URL: https://www.we-online.com/redexpert/article/744393440015?ad; ComponentLink2Description: Datasheet Link; ComponentLink2URL: https://www.we-online.com/redexpert/spec/744393440015?ad; Mount: Surface Mount; Operating Temperature Max: 125°C; Operating Temperature Min: -40°C; Packaging: Tape and Reel; Length: 6.65mm; Width: 6.45mm; Height: 3mm; DC Resistance: 1.24mΩ; Inductance: 0.15µH; Rated Current: 18.9A
footprint WE-XHMI_6030_L6.65W6.45H3
simulation model 6030_744393440015_0.15u
pins: 1, 2

## 744393440018
designator L?, comment 0.18µH, 20A  (value not drawn)
WE-XHMI SMT Power Inductor, size 6030, 0.18µH, 20A, 1.32mΩ; Manufacturer Part Number: 744393440018; Manufacturer: Wurth Elektronik; Case/Size Code: 6030; Performance Rated Current: 35.65A; Saturation Current: 50.6A; Self Resonant Frequency: 169MHz; Category: Shielded Power Inductors; Match Code: WE-XHMI; ComponentLink1Description: Website Link; ComponentLink1URL: https://www.we-online.com/redexpert/article/744393440018?ad; ComponentLink2Description: Datasheet Link; ComponentLink2URL: https://www.we-online.com/redexpert/spec/744393440018?ad; Mount: Surface Mount; Operating Temperature Max: 125°C; Operating Temperature Min: -40°C; Packaging: Tape and Reel; Length: 6.65mm; Width: 6.45mm; Height: 3mm; DC Resistance: 1.32mΩ; Inductance: 0.18µH; Rated Current: 20A
footprint WE-XHMI_6030_L6.65W6.45H3
simulation model 6030_744393440018_0.18u
pins: 1, 2

## 744393440033
designator L?, comment 0.33µH, 16.5A  (value not drawn)
WE-XHMI SMT Power Inductor, size 6030, 0.33µH, 16.5A, 2.1mΩ; Manufacturer Part Number: 744393440033; Manufacturer: Wurth Elektronik; Case/Size Code: 6030; Performance Rated Current: 27.35A; Saturation Current: 42.9A; Self Resonant Frequency: 113MHz; Category: Shielded Power Inductors; Match Code: WE-XHMI; ComponentLink1Description: Website Link; ComponentLink1URL: https://www.we-online.com/redexpert/article/744393440033?ad; ComponentLink2Description: Datasheet Link; ComponentLink2URL: https://www.we-online.com/redexpert/spec/744393440033?ad; Mount: Surface Mount; Operating Temperature Max: 125°C; Operating Temperature Min: -40°C; Packaging: Tape and Reel; Length: 6.65mm; Width: 6.45mm; Height: 3mm; DC Resistance: 2.1mΩ; Inductance: 0.33µH; Rated Current: 16.5A
footprint WE-XHMI_6030_L6.65W6.45H3
simulation model 6030_744393440033_0.33u
pins: 1, 2

## 744393440056
designator L?, comment 0.56µH, 16A  (value not drawn)
WE-XHMI SMT Power Inductor, size 6030, 0.56µH, 16A, 2.9mΩ; Manufacturer Part Number: 744393440056; Manufacturer: Wurth Elektronik; Case/Size Code: 6030; Performance Rated Current: 22.75A; Saturation Current: 30.8A; Self Resonant Frequency: 77MHz; Category: Shielded Power Inductors; Match Code: WE-XHMI; ComponentLink1Description: Website Link; ComponentLink1URL: https://www.we-online.com/redexpert/article/744393440056?ad; ComponentLink2Description: Datasheet Link; ComponentLink2URL: https://www.we-online.com/redexpert/spec/744393440056?ad; Mount: Surface Mount; Operating Temperature Max: 125°C; Operating Temperature Min: -40°C; Packaging: Tape and Reel; Length: 6.65mm; Width: 6.45mm; Height: 3mm; DC Resistance: 2.9mΩ; Inductance: 0.56µH; Rated Current: 16A
footprint WE-XHMI_6030_L6.65W6.45H3
simulation model 6030_744393440056_0.56u
pins: 1, 2

## 744393580068
designator L?, comment 0.68µH, 20A  (value not drawn)
WE-XHMI SMT Power Inductor, size 8080, 0.68µH, 20A, 1.41mΩ; Manufacturer Part Number: 744393580068; Manufacturer: Wurth Elektronik; Case/Size Code: 8080; Performance Rated Current: 38A; Saturation Current: 52.2A; Self Resonant Frequency: 62MHz; Category: Shielded Power Inductors; Match Code: WE-XHMI; ComponentLink1Description: Website Link; ComponentLink1URL: https://www.we-online.com/redexpert/article/744393580068?ad; ComponentLink2Description: Datasheet Link; ComponentLink2URL: https://www.we-online.com/redexpert/spec/744393580068?ad; Mount: Surface Mount; Operating Temperature Max: 125°C; Operating Temperature Min: -40°C; Packaging: Tape and Reel; Length: 8.8mm; Width: 8.3mm; Height: 7.8mm; DC Resistance: 1.41mΩ; Inductance: 0.68µH; Rated Current: 20A
footprint WE-XHMI_8080_L8.8W8.3H7.8
simulation model 8080_744393580068_0.68u
pins: 1, 2